# Altium footprint library DANCE_LIB_REV2.PcbLib: 146 footprints (part 5 of 10)
Each footprint in its own frame and in the unit in brackets; x right, y up, seen from the top. Pads: shape width x height; smd on the part's side, far side on the other; paste and mask are expansions set on the pad; w line width, h text height; cw(c..) or ccw(c..) is an arc to the next point about the centre after c.
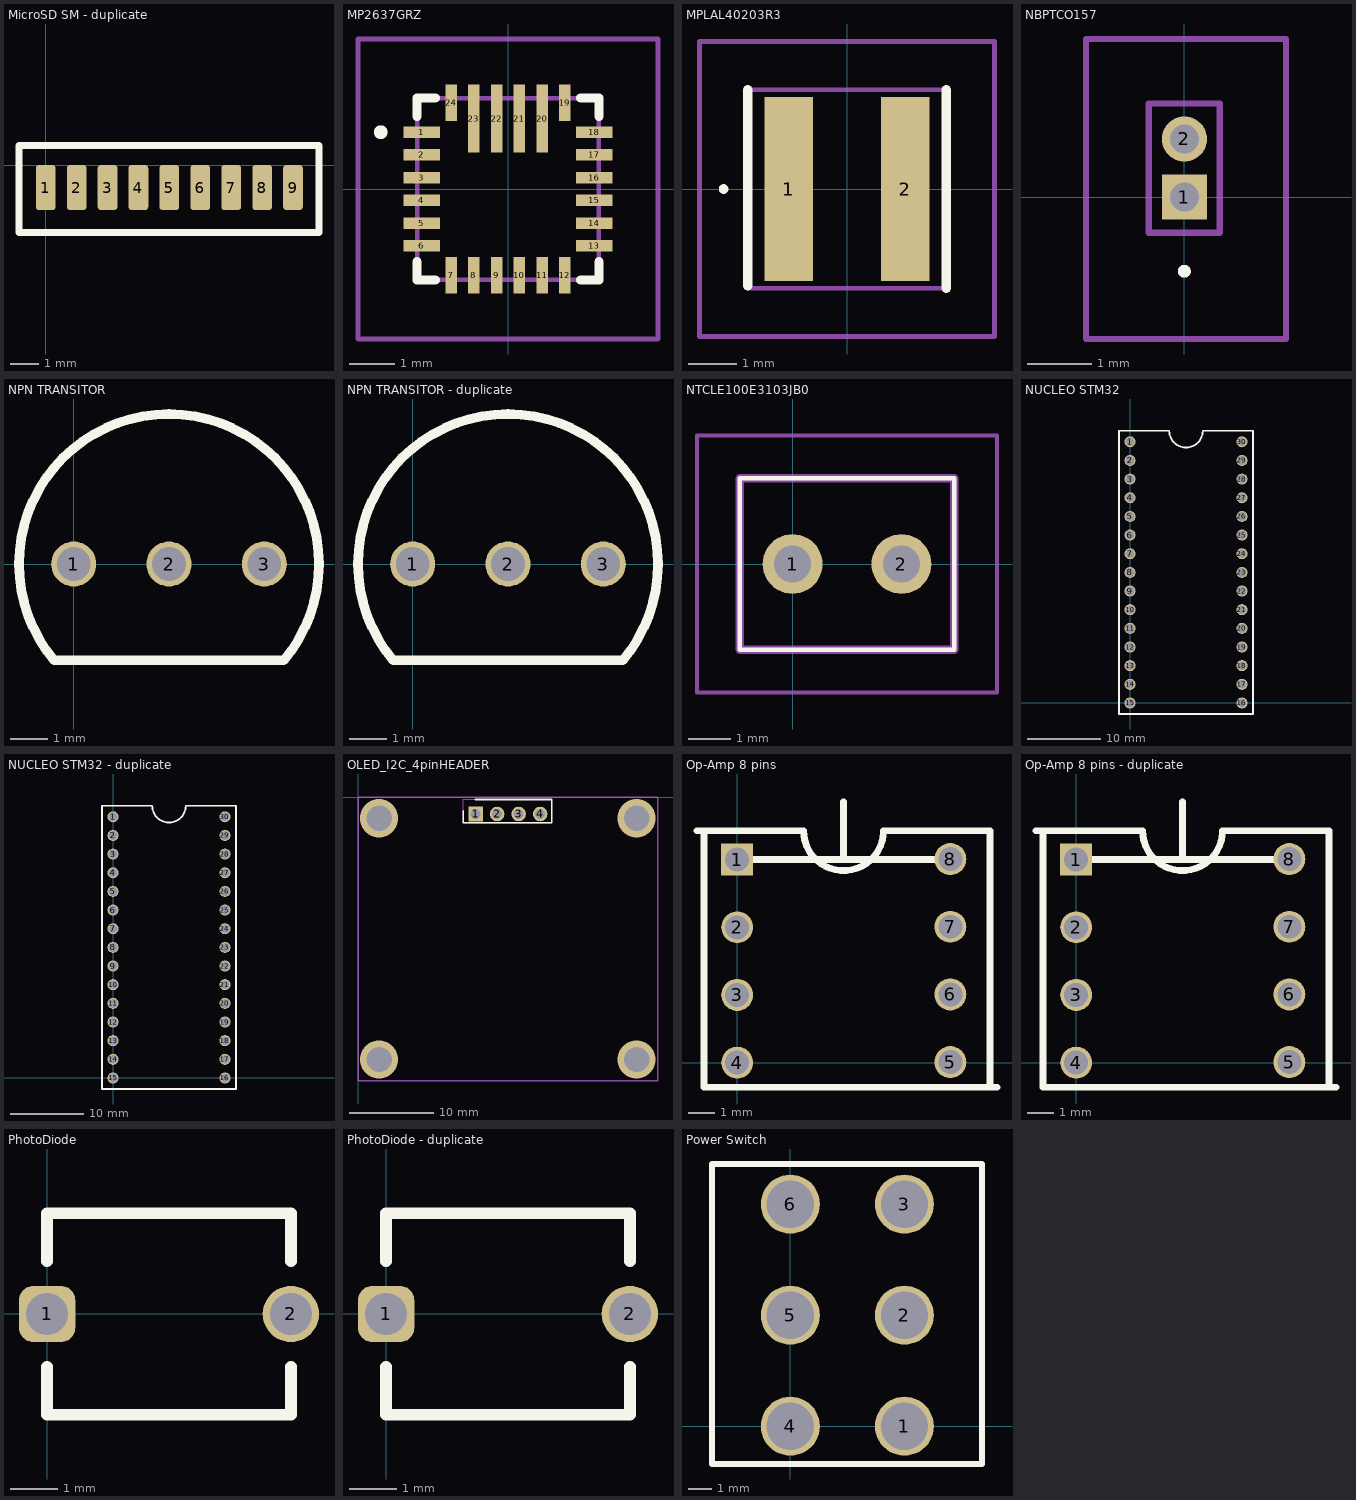
[diagram p4: the footprints below, top view; thin cyan lines are the x and y axes]

## MicroSD SM - duplicate [mm]
pads (9):
  rrect30% 0.7x1.6 smd: 1(0,-0.8) 2(1.1,-0.8) 3(2.2,-0.8) 4(3.3,-0.8) 5(4.4,-0.8) 6(5.5,-0.8) 7(6.6,-0.8) 8(7.7,-0.8) 9(8.8,-0.8)
Top Overlay:
  lines w0.254: -0.95,-2.4 -0.95,0.7 9.725,0.7 9.725,-2.4 -0.95,-2.4

## MP2637GRZ [mm]
pads (24):
  rect 0.8x0.25 smd: 1(-1.9,1.25) 2(-1.9,0.75) 3(-1.9,0.25) 4(-1.9,-0.25) 5(-1.9,-0.75) 6(-1.9,-1.25) 13(1.9,-1.25) 14(1.9,-0.75) 15(1.9,-0.25) 16(1.9,0.25) 17(1.9,0.75) 18(1.9,1.25)
  rect 0.25x0.8 smd: 7(-1.25,-1.9) 8(-0.75,-1.9) 9(-0.25,-1.9) 10(0.25,-1.9) 11(0.75,-1.9) 12(1.25,-1.9) 19(1.25,1.9) 24(-1.25,1.9)
  rect 0.25x1.5 smd: 20(0.75,1.55) 21(0.25,1.55) 22(-0.25,1.55) 23(-0.75,1.55)
Top Overlay:
  lines w0.2: -2,-1.6 -2,-2 -1.6,-2 ; -2,1.6 -2,2 -1.6,2 ; 1.6,-2 2,-2 2,-1.6 ; 1.6,2 2,2 2,1.6 ; -2.8,1.2 cw(c-2.8,1.25) -2.8,1.3 cw(c-2.8,1.25) -2.8,1.2
Mechanical 13:
  lines w0.1: -2,-2 -2,2 2,2 2,-2 -2,-2
Mechanical 15:
  lines w0.1: -3.3,-3.3 -3.3,3.3 3.3,3.3 3.3,-3.3 -3.3,-3.3
3D body "MP2637GR-Z.stp": height 1.1, standoff 0, extent -2,-2 2,2

## MPLAL40203R3 [mm]
pads (2):
  rect 1x3.8 smd: 1(-1.2,0) 2(1.2,0)
Top Overlay:
  lines w0.1: -2.6,0 cw(c-2.55,0) -2.5,0 cw(c-2.55,0) -2.6,0
  lines w0.2: -2.05,-2 -2.05,2.05 ; 2.05,-2.05 2.05,2.05
Mechanical 13:
  lines w0.1: -2.05,-2.05 -2.05,2.05 2.05,2.05 2.05,-2.05 -2.05,-2.05
Mechanical 15:
  lines w0.1: -3.05,-3.05 -3.05,3.05 3.05,3.05 3.05,-3.05 -3.05,-3.05
3D body "MPL-AL4020-3R3.stp": height 2.2, standoff 0, extent -2.05,-2.05 2.05,2.05

## NBPTCO157 [mm]
pads (2):
  rect 0.7x0.7 hole 0.45: 1(0,0)
  round 0.7 hole 0.45: 2(0,0.9)
Top Overlay:
  lines w0.1: 0,-1.2 ccw(c0,-1.15) 0,-1.1 ccw(c0,-1.15) 0,-1.2
Mechanical 13:
  lines w0.1: -0.55,-0.55 -0.55,1.45 0.55,1.45 0.55,-0.55 -0.55,-0.55
Mechanical 15:
  lines w0.1: -1.525,-2.2 1.575,-2.2 1.575,2.45 -1.525,2.45 -1.525,-2.2
3D body "NB-PTCO-157.stp": height 1.31, standoff -10.99, extent -0.47,-0.56 0.53,1.44

## NPN TRANSITOR [mm]
pads (3):
  round 1.2 hole 0.9: 1(0,0) 2(2.54,0) 3(5.08,0)
Top Overlay:
  lines w0.254: -0.524,-2.571 cw(c2.54,0) 5.604,-2.571 -0.524,-2.571

## NPN TRANSITOR - duplicate [mm]
pads (3):
  round 1.2 hole 0.9: 1(0,0) 2(2.54,0) 3(5.08,0)
Top Overlay:
  lines w0.254: -0.524,-2.571 cw(c2.54,0) 5.604,-2.571 -0.524,-2.571

## NTCLE100E3103JB0 [mil]
pads (2):
  round 55 hole 33.86: 1(0,0) 2(100,0)
Top Overlay:
  lines w3.94: -48.43,-78.74 -48.43,78.74 148.43,78.74 148.43,-78.74 -48.43,-78.74
Mechanical 13:
  lines w7.87: -48.43,-78.74 -48.43,78.74 148.43,78.74 148.43,-78.74 -48.43,-78.74
Mechanical 15:
  lines w3.94: -87.8,-118.11 -87.8,118.11 187.8,118.11 187.8,-118.11 -87.8,-118.11
3D body "NTCLE100E3103JB0.stp": height 786.94, standoff -157.48, extent -24.8,-59.16 124.81,59.15

## NUCLEO STM32 [mm]
pads (30):
  round 1.5 hole 1.2: 1(0,35.56) 2(0,33.02) 3(0,30.48) 4(0,27.94) 5(0,25.4) 6(0,22.86) 7(0,20.32) 8(0,17.78) 9(0,15.24) 10(0,12.7) 11(0,10.16) 12(0,7.62) 13(0,5.08) 14(0,2.54) 15(0,0) 16(15.24,0) 17(15.24,2.54) 18(15.24,5.08) 19(15.24,7.62) 20(15.24,10.16) 21(15.24,12.7) 22(15.24,15.24) 23(15.24,17.78) 24(15.24,20.32) 25(15.24,22.86) 26(15.24,25.4) 27(15.24,27.94) 28(15.24,30.48) 29(15.24,33.02) 30(15.24,35.56)
Top Overlay:
  lines w0.254: -1.5,-1.5 16.74,-1.5 16.74,37.06 9.9,37.06 cw(c7.62,37.06) 5.34,37.06 -1.5,37.06 -1.5,-1.5

## NUCLEO STM32 - duplicate [mm]
pads (30):
  round 1.5 hole 1.2: 1(0,35.56) 2(0,33.02) 3(0,30.48) 4(0,27.94) 5(0,25.4) 6(0,22.86) 7(0,20.32) 8(0,17.78) 9(0,15.24) 10(0,12.7) 11(0,10.16) 12(0,7.62) 13(0,5.08) 14(0,2.54) 15(0,0) 16(15.24,0) 17(15.24,2.54) 18(15.24,5.08) 19(15.24,7.62) 20(15.24,10.16) 21(15.24,12.7) 22(15.24,15.24) 23(15.24,17.78) 24(15.24,20.32) 25(15.24,22.86) 26(15.24,25.4) 27(15.24,27.94) 28(15.24,30.48) 29(15.24,33.02) 30(15.24,35.56)
Top Overlay:
  lines w0.254: -1.5,-1.5 -1.5,37.06 5.34,37.06 ccw(c7.62,37.06) 9.9,37.06 16.74,37.06 16.74,-1.5 -1.5,-1.5

## OLED_I2C_4pinHEADER [mm] "OLED DISPLAY I2C 4 pin header"
pads (4):
  rect 1.725x1.725 hole 1.15: 1(13.89,-2)
  round 1.725 hole 1.15: 2(16.43,-2) 3(18.97,-2) 4(21.51,-2)
via 32.9,-31 diameter 4.5 hole 3
via 2.5,-31 diameter 4.5 hole 3
via 32.9,-2.5 diameter 4.5 hole 3
via 2.5,-2.5 diameter 4.5 hole 3
Top Overlay:
  lines w0.2: 12.423,-1.651 12.423,-3.021 22.883,-3.021 22.883,-0.281 13.843,-0.281
Mechanical 13:
  lines w0.1: 12.423,-3.021 12.423,-0.281 22.883,-0.281 22.883,-3.021 12.423,-3.021
Mechanical 15:
  lines w0.152: 0,-33.528 35.433,-33.528 35.433,0 0,0 0,-33.528
3D body "61300411121.stp": height 8.54, standoff -3.2, extent 12.573,-2.921 22.733,-0.381

## Op-Amp 8 pins [mm]
pads (8):
  rect 1.2x1.2 hole 0.9: 1(0,7.62)
  round 1.2 hole 0.9: 2(0,5.08) 3(0,2.54) 4(0,0) 5(8,0.02) 6(8,2.56) 7(8,5.1) 8(8,7.64)
Top Overlay:
  lines w0.254: -1.51,8.705 2.49,8.705 ccw(c3.99,8.705) 5.49,8.705 9.49,8.705 9.49,-0.895 ; -1.25,8.675 -1.25,-0.925 9.75,-0.925 ; 0,7.62 7.98,7.62 ; 3.99,7.62 3.99,9.79

## Op-Amp 8 pins - duplicate [mm]
pads (8):
  rect 1.2x1.2 hole 0.9: 1(0,7.62)
  round 1.2 hole 0.9: 2(0,5.08) 3(0,2.54) 4(0,0) 5(8,0.02) 6(8,2.56) 7(8,5.1) 8(8,7.64)
Top Overlay:
  lines w0.254: -1.51,8.705 2.49,8.705 ccw(c3.99,8.705) 5.49,8.705 9.49,8.705 9.49,-0.895 ; -1.25,8.675 -1.25,-0.925 9.75,-0.925 ; 0,7.62 7.98,7.62 ; 3.99,7.62 3.99,9.79

## PCBComponent_1 [mm]

## PhotoDiode [mm]
pads (2):
  rrect50% 1.2x1.2 hole 0.9: 1(0,0)
  round 1.2 hole 0.9: 2(5.2,0)
Top Overlay:
  lines w0.254: 0,-1.125 0,-2.15 5.2,-2.15 5.2,-1.125 ; 0,1.125 0,2.15 5.2,2.15 5.2,1.125

## PhotoDiode - duplicate [mm]
pads (2):
  rrect50% 1.2x1.2 hole 0.9: 1(0,0)
  round 1.2 hole 0.9: 2(5.2,0)
Top Overlay:
  lines w0.254: 0,-1.125 0,-2.15 5.2,-2.15 5.2,-1.125 ; 0,1.125 0,2.15 5.2,2.15 5.2,1.125

## Power Switch [mm]
pads (6):
  round 2.5 hole 2: 1(4.83,0) 2(4.83,4.7) 3(4.83,9.4) 4(0,0) 5(0,4.7) 6(0,9.4)
Top Overlay:
  lines w0.254: -3.315,-1.6 -3.315,11.1 8.115,11.1 8.115,-1.6 -3.315,-1.6